# Altium schematic symbol library 691 356 300 0xx B.SchLib: 6 symbols
Pins are listed as number, name and electrical type; pins without a type are passive.

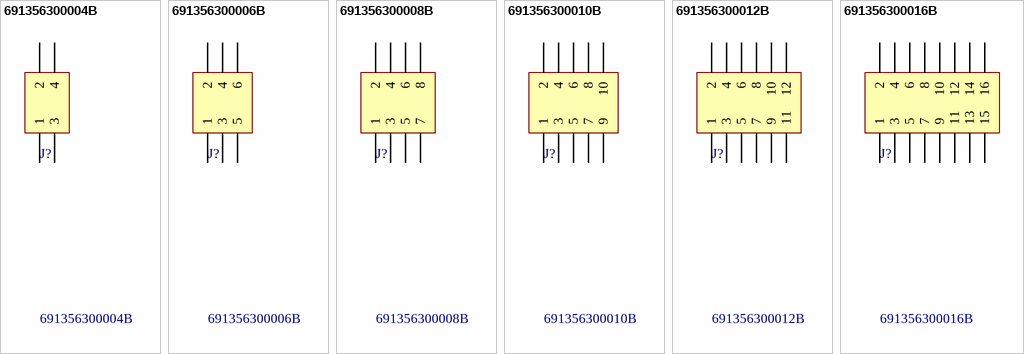
[diagram p0: symbols 691356300004B to 691356300016B]

## 691356300004B
designator J?
WR-TBL Terminal block - serie 356 - 3.81 mm; Manufacturer: Würth Elektronik eiSos GmbH; ComponentLink1 Description: Manufacturer; ComponentLink2 Description: Datasheet; NoPins: 04; Created Date: 2 January 2014; partNo: 691356300004B; ComponentLink1URL: http://www.we-online.com; ComponentLink2URL: http://katalog.we-online.de/em/datasheet/6913563000xxB.pdf; Created by: Karrer Zheng
footprint 691356300004B (3,81mm - PCB - Double level - Vertical - 04p)
pins: 1, 2, 3, 4

## 691356300006B
designator J?
WR-TBL Terminal block - serie 356 - 3.81 mm; Manufacturer: Würth Elektronik eiSos GmbH; ComponentLink1 Description: Manufacturer; ComponentLink2 Description: Datasheet; NoPins: 06; Created Date: 2 January 2014; partNo: 691356300006B; ComponentLink1URL: http://www.we-online.com; ComponentLink2URL: http://katalog.we-online.de/em/datasheet/6913563000xxB.pdf; Created by: Karrer Zheng
footprint 691356300006B (3,81mm - PCB - Double level - Vertical - 06p)
pins: 1, 2, 3, 4, 5, 6

## 691356300008B
designator J?
WR-TBL Terminal block - serie 356 - 3.81 mm; Manufacturer: Würth Elektronik eiSos GmbH; ComponentLink1 Description: Manufacturer; ComponentLink2 Description: Datasheet; NoPins: 08; Created Date: 2 January 2014; partNo: 691356300008B; ComponentLink1URL: http://www.we-online.com; ComponentLink2URL: http://katalog.we-online.de/em/datasheet/6913563000xxB.pdf; Created by: Karrer Zheng
footprint 691356300008B (3,81mm - PCB - Double level - Vertical - 08p)
pins: 1, 2, 3, 4, 5, 6, 7, 8

## 691356300010B
designator J?
WR-TBL Terminal block - serie 356 - 3.81 mm; Manufacturer: Würth Elektronik eiSos GmbH; ComponentLink1 Description: Manufacturer; ComponentLink2 Description: Datasheet; NoPins: 10; Created Date: 2 January 2014; partNo: 691356300010B; ComponentLink1URL: http://www.we-online.com; ComponentLink2URL: http://katalog.we-online.de/em/datasheet/6913563000xxB.pdf; Created by: Karrer Zheng
footprint 691356300010B (3,81mm - PCB - Double level - Vertical - 10p)
pins: 1, 2, 3, 4, 5, 6, 7, 8, 9, 10

## 691356300012B
designator J?
WR-TBL Terminal block - serie 356 - 3.81 mm; Manufacturer: Würth Elektronik eiSos GmbH; ComponentLink1 Description: Manufacturer; ComponentLink2 Description: Datasheet; NoPins: 12; Created Date: 2 January 2014; partNo: 691356300012B; ComponentLink1URL: http://www.we-online.com; ComponentLink2URL: http://katalog.we-online.de/em/datasheet/6913563000xxB.pdf; Created by: Karrer Zheng
footprint 691356300012B (3,81mm - PCB - Double level - Vertical - 12p)
pins: 1, 2, 3, 4, 5, 6, 7, 8, 9, 10, 11, 12

## 691356300016B
designator J?
WR-TBL Terminal block - serie 356 - 3.81 mm; Manufacturer: Würth Elektronik eiSos GmbH; ComponentLink1 Description: Manufacturer; ComponentLink2 Description: Datasheet; NoPins: 16; Created Date: 2 January 2014; partNo: 691356300016B; ComponentLink1URL: http://www.we-online.com; ComponentLink2URL: http://katalog.we-online.de/em/datasheet/6913563000xxB.pdf; Created by: Karrer Zheng
footprint 691356300016B (3,81mm - PCB - Double level - Vertical - 16p)
pins: 1, 2, 3, 4, 5, 6, 7, 8, 9, 10, 11, 12, 13, 14, 15, 16